# Altium footprint library TPS628610YCHR.PcbLib: 1 footprints
Each footprint in its own frame and in the unit in brackets; x right, y up, seen from the top. Pads: shape width x height; smd on the part's side, far side on the other; paste and mask are expansions set on the pad; w line width, h text height; cw(c..) or ccw(c..) is an arc to the next point about the centre after c.
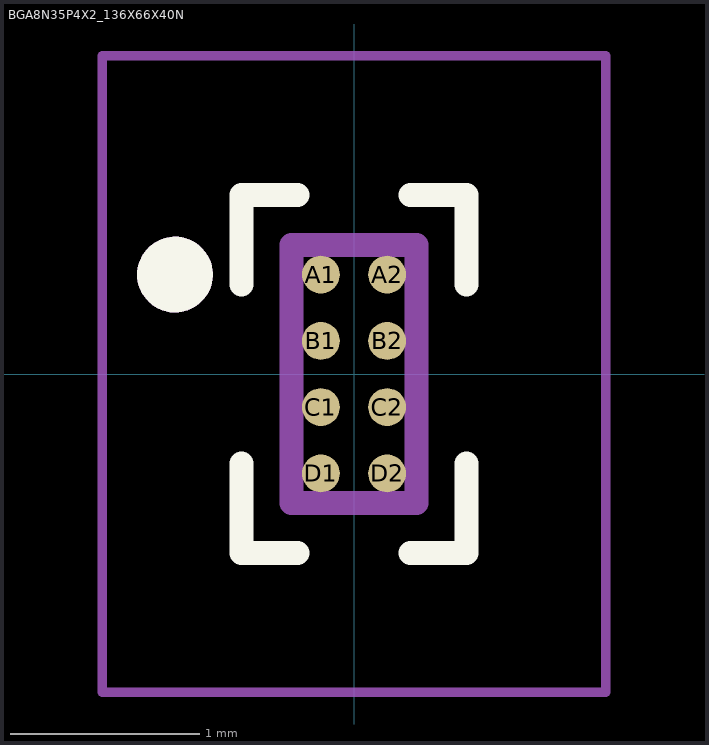
[diagram p0: the footprint, top view; thin cyan lines are the x and y axes]

## BGA8N35P4X2_136X66X40N [mm]
pads (8):
  round 0.2 smd: A1(-0.175,0.525) A2(0.175,0.525) B1(-0.175,0.175) B2(0.175,0.175) C1(-0.175,-0.175) C2(0.175,-0.175) D1(-0.175,-0.525) D2(0.175,-0.525)
Top Overlay:
  circle w0.2: c-0.945,0.525 r0.1
  lines w0.127: -0.595,-0.473 -0.595,-0.945 -0.298,-0.945 ; -0.595,0.473 -0.595,0.945 -0.298,0.945 ; 0.298,-0.945 0.595,-0.945 0.595,-0.473 ; 0.298,0.945 0.595,0.945 0.595,0.473
Mechanical 13:
  circle w0.2: c-0.945,0.525 r0.1
  lines w0.127: -0.33,-0.68 -0.33,0.68 0.33,0.68 0.33,-0.68 -0.33,-0.68
Mechanical 15:
  lines w0.05: -1.331,-1.68 -1.331,1.68 1.331,1.68 1.331,-1.68 -1.331,-1.68
3D body "step_temp.STEP": height 0.4, standoff 0, extent -0.33,-0.68 0.33,0.68